# Altium footprint library UQFN-20-4x4-EP.PcbLib: 1 footprints
Each footprint in its own frame and in the unit in brackets; x right, y up, seen from the top. Pads: shape width x height; smd on the part's side, far side on the other; paste and mask are expansions set on the pad; w line width, h text height; cw(c..) or ccw(c..) is an arc to the next point about the centre after c.
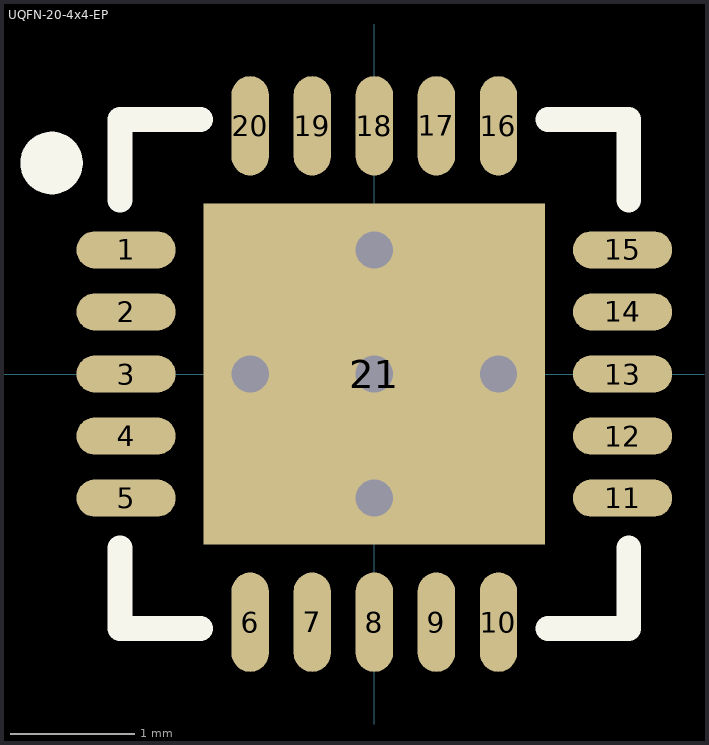
[diagram p0: the footprint, top view; thin cyan lines are the x and y axes]

## UQFN-20-4x4-EP [mm]
pads (21):
  oval 0.8x0.3 smd mask+0.05: 1(-2,1) 2(-2,0.5) 3(-2,0) 4(-2,-0.5) 5(-2,-1) 11(2,-1) 12(2,-0.5) 13(2,0) 14(2,0.5) 15(2,1)
  oval 0.3x0.8 smd mask+0.05: 6(-1,-2) 7(-0.5,-2) 8(0,-2) 9(0.5,-2) 10(1,-2) 16(1,2) 17(0.5,2) 18(0,2) 19(-0.5,2) 20(-1,2)
  rect 2.75x2.75 smd mask+0.05: 21(0,0)
via 0,-1 diameter 0.6 hole 0.3
via 1,0 diameter 0.6 hole 0.3
via 0,1 diameter 0.6 hole 0.3
via -1,0 diameter 0.6 hole 0.3
via 0,0 diameter 0.6 hole 0.3
Top Overlay:
  circle w0.25: c-2.6,1.7 r0.127
  lines w0.2: -2.05,-1.4 -2.05,-2.05 -1.4,-2.05 ; -2.05,1.4 -2.05,2.05 -1.4,2.05 ; 1.4,-2.05 2.05,-2.05 2.05,-1.4 ; 1.4,2.05 2.05,2.05 2.05,1.4
3D body: height 0.5, standoff 0, extent -2,-2 2,2